# EAGLE library part SC410 (library am29-memory)
ELAN SC410 embedded 486 processor
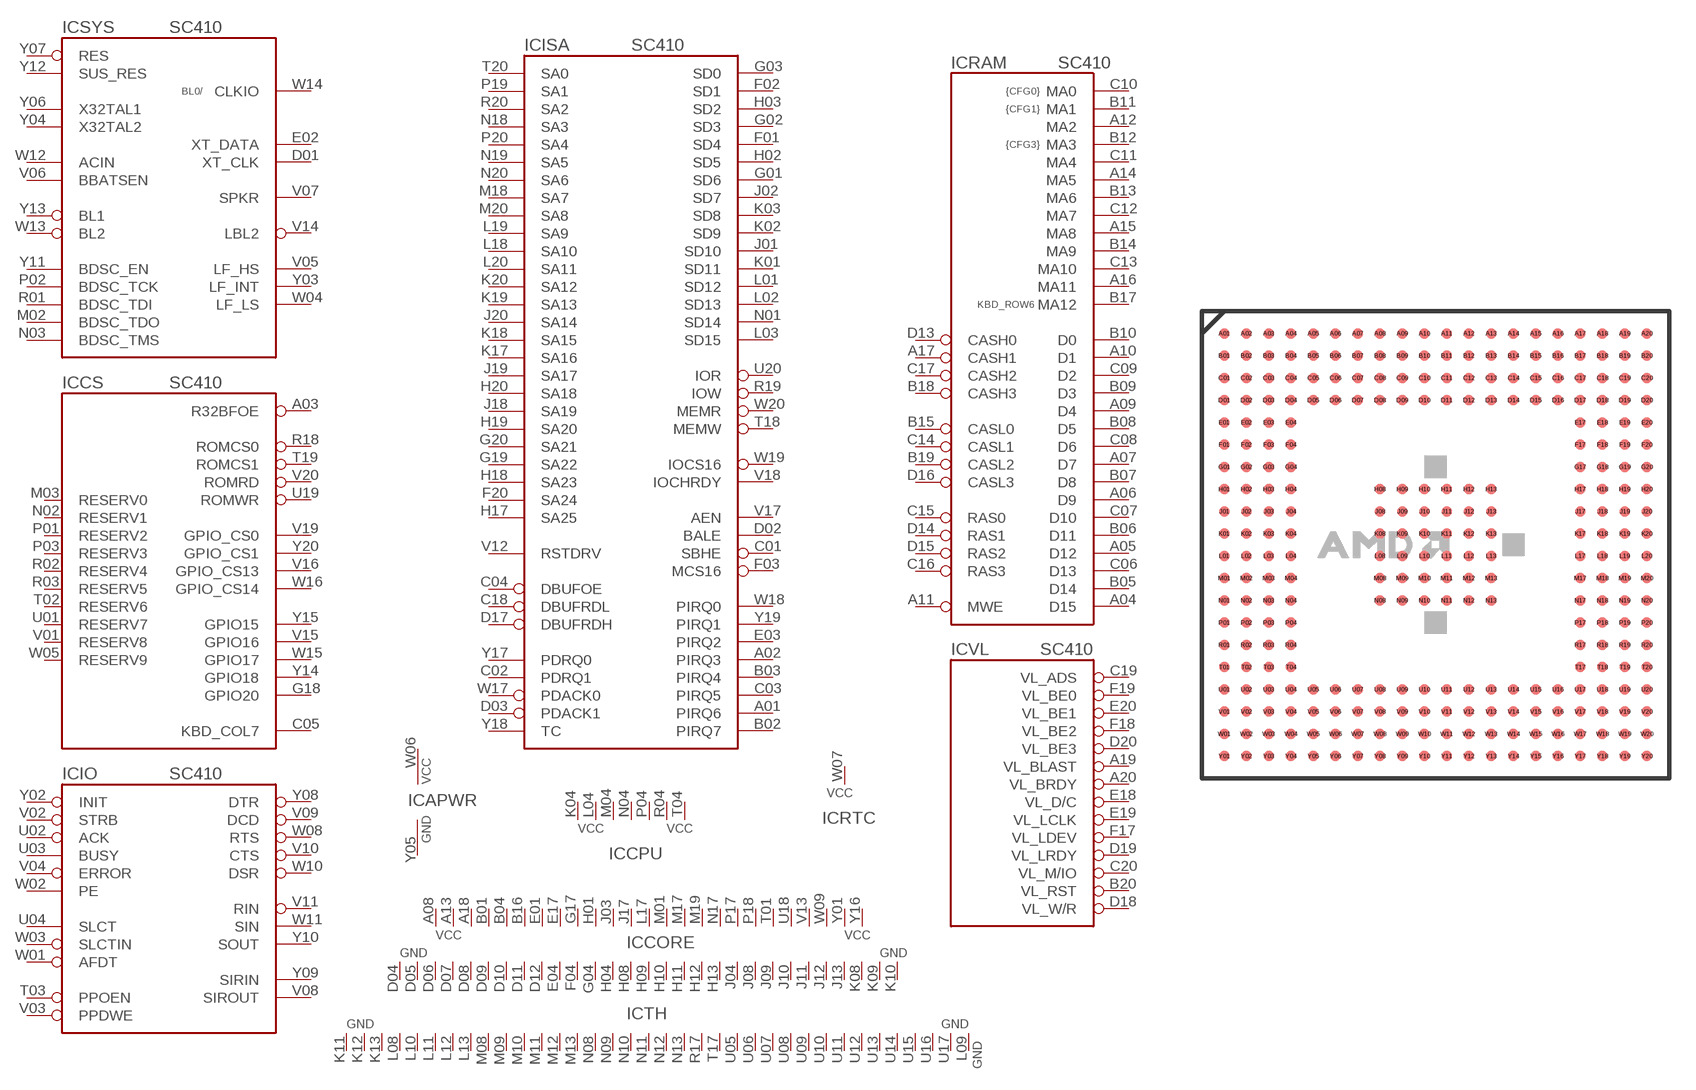
[diagram p0: symbol with the pads of BGA292; footprint BGA292]

Designator prefix IC; gates APWR=APWR CORE=COREPWR CPU=CPUPWR RTC=RTCPWR TH=THERM36 SYS=SYSMGR CS=CHIPSEL IO=SIO_EPP ISA=ISABUS RAM=DRAMBUS VL=VLBUS

## SC410  [BGA292]
A01  ISA:PIRQ6  in
A02  ISA:PIRQ3  in
A03  CS:R32BFOE  out
A04  RAM:D15
A05  RAM:D12
A06  RAM:D9
A07  RAM:D7
A08  CORE:VCC  pwr
A09  RAM:D4
A10  RAM:D1
A11  RAM:MWE  out
A12  RAM:MA2  out
A13  CORE:VCC  pwr
A14  RAM:MA5  out
A15  RAM:MA8  out
A16  RAM:MA11  out
A17  RAM:CASH1  out
A18  CORE:VCC  pwr
A19  VL:VL_BLAST  out
A20  VL:VL_BRDY  out
B01  CORE:VCC  pwr
B02  ISA:PIRQ7  in
B03  ISA:PIRQ4  in
B04  CORE:VCC  pwr
B05  RAM:D14
B06  RAM:D11
B07  RAM:D8
B08  RAM:D5
B09  RAM:D3
B10  RAM:D0
B11  RAM:MA1  out
B12  RAM:MA3  out
B13  RAM:MA6  out
B14  RAM:MA9  out
B15  RAM:CASL0  out
B16  CORE:VCC  pwr
B17  RAM:MA12  out
B18  RAM:CASH3  out
B19  RAM:CASL2  out
B20  VL:VL_RST  out
C01  ISA:SBHE  out
C02  ISA:PDRQ1  in
C03  ISA:PIRQ5  in
C04  ISA:DBUFOE  out
C05  CS:KBD_COL7  out
C06  RAM:D13
C07  RAM:D10
C08  RAM:D6
C09  RAM:D2
C10  RAM:MA0  out
C11  RAM:MA4  out
C12  RAM:MA7  out
C13  RAM:MA10  out
C14  RAM:CASL1  out
C15  RAM:RAS0  out
C16  RAM:RAS3  out
C17  RAM:CASH2  out
C18  ISA:DBUFRDL  out
C19  VL:VL_ADS  out
C20  VL:VL_M/IO  out
D01  SYS:XT_CLK
D02  ISA:BALE  out
D03  ISA:PDACK1  in
D04  CORE:GND  pwr
D05  CORE:GND  pwr
D06  CORE:GND  pwr
D07  CORE:GND  pwr
D08  CORE:GND  pwr
D09  CORE:GND  pwr
D10  CORE:GND  pwr
D11  CORE:GND  pwr
D12  CORE:GND  pwr
D13  RAM:CASH0  out
D14  RAM:RAS1  out
D15  RAM:RAS2  out
D16  RAM:CASL3  out
D17  ISA:DBUFRDH  out
D18  VL:VL_W/R  out
D19  VL:VL_LRDY  out
D20  VL:VL_BE3  out
E01  CORE:VCC  pwr
E02  SYS:XT_DATA
E03  ISA:PIRQ2  in
E04  CORE:GND  pwr
E17  CORE:VCC  pwr
E18  VL:VL_D/C  out
E19  VL:VL_LCLK  out
E20  VL:VL_BE1  out
F01  ISA:SD4
F02  ISA:SD1
F03  ISA:MCS16  out
F04  CORE:GND  pwr
F17  VL:VL_LDEV  out
F18  VL:VL_BE2  out
F19  VL:VL_BE0  out
F20  ISA:SA24  out
G01  ISA:SD6
G02  ISA:SD3
G03  ISA:SD0
G04  CORE:GND  pwr
G17  CORE:VCC  pwr
G18  CS:GPIO20  out
G19  ISA:SA22  out
G20  ISA:SA21  out
H01  CORE:VCC  pwr
H02  ISA:SD5
H03  ISA:SD2
H04  CORE:GND  pwr
H08  CORE:GND  pwr
H09  CORE:GND  pwr
H10  CORE:GND  pwr
H11  CORE:GND  pwr
H12  CORE:GND  pwr
H13  CORE:GND  pwr
H17  ISA:SA25  out
H18  ISA:SA23  out
H19  ISA:SA20  out
H20  ISA:SA18  out
J01  ISA:SD10
J02  ISA:SD7
J03  CORE:VCC  pwr
J04  CORE:GND  pwr
J08  CORE:GND  pwr
J09  CORE:GND  pwr
J10  CORE:GND  pwr
J11  CORE:GND  pwr
J12  CORE:GND  pwr
J13  CORE:GND  pwr
J17  CORE:VCC  pwr
J18  ISA:SA19  out
J19  ISA:SA17  out
J20  ISA:SA14  out
K01  ISA:SD11
K02  ISA:SD9
K03  ISA:SD8
K04  CPU:CPUVCC  pwr
K08  CORE:GND  pwr
K09  CORE:GND  pwr
K10  CORE:GND  pwr
K11  TH:GND  pwr
K12  TH:GND  pwr
K13  TH:GND  pwr
K17  ISA:SA16  out
K18  ISA:SA15  out
K19  ISA:SA13  out
K20  ISA:SA12  out
L01  ISA:SD12
L02  ISA:SD13
L03  ISA:SD15
L04  CPU:CPUVCC  pwr
L08  TH:GND  pwr
L09  TH:GND  pwr
L10  TH:GND  pwr
L11  TH:GND  pwr
L12  TH:GND  pwr
L13  TH:GND  pwr
L17  CORE:VCC  pwr
L18  ISA:SA10  out
L19  ISA:SA9  out
L20  ISA:SA11  out
M01  CORE:VCC  pwr
M02  SYS:BDSC_TDO  in
M03  CS:RESERV0  nc
M04  CPU:CPUVCC  pwr
M08  TH:GND  pwr
M09  TH:GND  pwr
M10  TH:GND  pwr
M11  TH:GND  pwr
M12  TH:GND  pwr
M13  TH:GND  pwr
M17  CORE:VCC  pwr
M18  ISA:SA7  out
M19  CORE:VCC  pwr
M20  ISA:SA8  out
N01  ISA:SD14
N02  CS:RESERV1  nc
N03  SYS:BDSC_TMS  in
N04  CPU:CPUVCC  pwr
N08  TH:GND  pwr
N09  TH:GND  pwr
N10  TH:GND  pwr
N11  TH:GND  pwr
N12  TH:GND  pwr
N13  TH:GND  pwr
N17  CORE:VCC  pwr
N18  ISA:SA3  out
N19  ISA:SA5  out
N20  ISA:SA6  out
P01  CS:RESERV2  nc
P02  SYS:BDSC_TCK  in
P03  CS:RESERV3  nc
P04  CPU:CPUVCC  pwr
P17  CORE:VCC  pwr
P18  CORE:VCC  pwr
P19  ISA:SA1  out
P20  ISA:SA4  out
R01  SYS:BDSC_TDI  in
R02  CS:RESERV4  nc
R03  CS:RESERV5  nc
R04  CPU:CPUVCC  pwr
R17  TH:GND  pwr
R18  CS:ROMCS0  out
R19  ISA:IOW  out
R20  ISA:SA2  out
T01  CORE:VCC  pwr
T02  CS:RESERV6  nc
T03  IO:PPOEN  out
T04  CPU:CPUVCC  pwr
T17  TH:GND  pwr
T18  ISA:MEMW  out
T19  CS:ROMCS1  out
T20  ISA:SA0  out
U01  CS:RESERV7  nc
U02  IO:ACK  in
U03  IO:BUSY  in
U04  IO:SLCT  in
U05  TH:GND  pwr
U06  TH:GND  pwr
U07  TH:GND  pwr
U08  TH:GND  pwr
U09  TH:GND  pwr
U10  TH:GND  pwr
U11  TH:GND  pwr
U12  TH:GND  pwr
U13  TH:GND  pwr
U14  TH:GND  pwr
U15  TH:GND  pwr
U16  TH:GND  pwr
U17  TH:GND  pwr
U18  CORE:VCC  pwr
U19  CS:ROMWR  out
U20  ISA:IOR  out
V01  CS:RESERV8  nc
V02  IO:STRB  out
V03  IO:PPDWE  out
V04  IO:ERROR  in
V05  SYS:LF_HS  out
V06  SYS:BBATSEN  in
V07  SYS:SPKR  out
V08  IO:SIROUT  out
V09  IO:DCD  in
V10  IO:CTS  out
V11  IO:RIN  in
V12  ISA:RSTDRV  out
V13  CORE:VCC  pwr
V14  SYS:LBL2  out
V15  CS:GPIO16  out
V16  CS:GPIO_CS13  out
V17  ISA:AEN  out
V18  ISA:IOCHRDY  in
V19  CS:GPIO_CS0  out
V20  CS:ROMRD  out
W01  IO:AFDT  out
W02  IO:PE  in
W03  IO:SLCTIN  out
W04  SYS:LF_LS  out
W05  CS:RESERV9  nc
W06  APWR:AVCC  pwr
W07  RTC:RTCVCC  pwr
W08  IO:RTS  out
W09  CORE:VCC  pwr
W10  IO:DSR  in
W11  IO:SIN  in
W12  SYS:ACIN  in
W13  SYS:BL2  in
W14  SYS:CLKIO
W15  CS:GPIO17  out
W16  CS:GPIO_CS14  out
W17  ISA:PDACK0  in
W18  ISA:PIRQ0  in
W19  ISA:IOCS16  in
W20  ISA:MEMR  out
Y01  CORE:VCC  pwr
Y02  IO:INIT  out
Y03  SYS:LF_INT  out
Y04  SYS:X32TAL2  in
Y05  APWR:AGND  pwr
Y06  SYS:X32TAL1  in
Y07  SYS:RES  in
Y08  IO:DTR  out
Y09  IO:SIRIN  in
Y10  IO:SOUT  out
Y11  SYS:BDSC_EN  in
Y12  SYS:SUS_RES  in
Y13  SYS:BL1  in
Y14  CS:GPIO18  out
Y15  CS:GPIO15  out
Y16  CORE:VCC  pwr
Y17  ISA:PDRQ0  in
Y18  ISA:TC  out
Y19  ISA:PIRQ1  in
Y20  CS:GPIO_CS1  out

## Footprint BGA292 (pad centres in mm)
Ball Grid Array
smd 0.6 x 0.6: A01 -12.065,12.065; A02 -10.795,12.065; A03 -9.525,12.065; A04 -8.255,12.065; A05 -6.985,12.065; A06 -5.715,12.065; A07 -4.445,12.065; A08 -3.175,12.065; A09 -1.905,12.065; A10 -0.635,12.065; A11 0.635,12.065; A12 1.905,12.065; A13 3.175,12.065; A14 4.445,12.065; A15 5.715,12.065; A16 6.985,12.065; A17 8.255,12.065; A18 9.525,12.065; A19 10.795,12.065; A20 12.065,12.065; B01 -12.065,10.795; B02 -10.795,10.795; B03 -9.525,10.795; B04 -8.255,10.795; B05 -6.985,10.795; B06 -5.715,10.795; B07 -4.445,10.795; B08 -3.175,10.795; B09 -1.905,10.795; B10 -0.635,10.795; B11 0.635,10.795; B12 1.905,10.795; B13 3.175,10.795; B14 4.445,10.795; B15 5.715,10.795; B16 6.985,10.795; B17 8.255,10.795; B18 9.525,10.795; B19 10.795,10.795; B20 12.065,10.795; C01 -12.065,9.525; C02 -10.795,9.525; C03 -9.525,9.525; C04 -8.255,9.525; C05 -6.985,9.525; C06 -5.715,9.525; C07 -4.445,9.525; C08 -3.175,9.525; C09 -1.905,9.525; C10 -0.635,9.525; C11 0.635,9.525; C12 1.905,9.525; C13 3.175,9.525; C14 4.445,9.525; C15 5.715,9.525; C16 6.985,9.525; C17 8.255,9.525; C18 9.525,9.525; C19 10.795,9.525; C20 12.065,9.525; D01 -12.065,8.255; D02 -10.795,8.255; D03 -9.525,8.255; D04 -8.255,8.255; D05 -6.985,8.255; D06 -5.715,8.255; D07 -4.445,8.255; D08 -3.175,8.255; D09 -1.905,8.255; D10 -0.635,8.255; D11 0.635,8.255; D12 1.905,8.255; D13 3.175,8.255; D14 4.445,8.255; D15 5.715,8.255; D16 6.985,8.255; D17 8.255,8.255; D18 9.525,8.255; D19 10.795,8.255; D20 12.065,8.255; E01 -12.065,6.985; E02 -10.795,6.985; E03 -9.525,6.985; E04 -8.255,6.985; E17 8.255,6.985; E18 9.525,6.985; E19 10.795,6.985; E20 12.065,6.985; F01 -12.065,5.715; F02 -10.795,5.715; F03 -9.525,5.715; F04 -8.255,5.715; F17 8.255,5.715; F18 9.525,5.715; F19 10.795,5.715; F20 12.065,5.715; G01 -12.065,4.445; G02 -10.795,4.445; G03 -9.525,4.445; G04 -8.255,4.445; G17 8.255,4.445; G18 9.525,4.445; G19 10.795,4.445; G20 12.065,4.445; H01 -12.065,3.175; H02 -10.795,3.175; H03 -9.525,3.175; H04 -8.255,3.175; H08 -3.175,3.175; H09 -1.905,3.175; H10 -0.635,3.175; H11 0.635,3.175; H12 1.905,3.175; H13 3.175,3.175; H17 8.255,3.175; H18 9.525,3.175; H19 10.795,3.175; H20 12.065,3.175; J01 -12.065,1.905; J02 -10.795,1.905; J03 -9.525,1.905; J04 -8.255,1.905; J08 -3.175,1.905; J09 -1.905,1.905; J10 -0.635,1.905; J11 0.635,1.905; J12 1.905,1.905; J13 3.175,1.905; J17 8.255,1.905; J18 9.525,1.905; J19 10.795,1.905; J20 12.065,1.905; K01 -12.065,0.635; K02 -10.795,0.635; K03 -9.525,0.635; K04 -8.255,0.635; K08 -3.175,0.635; K09 -1.905,0.635; K10 -0.635,0.635; K11 0.635,0.635; K12 1.905,0.635; K13 3.175,0.635; K17 8.255,0.635; K18 9.525,0.635; K19 10.795,0.635; K20 12.065,0.635; L01 -12.065,-0.635; L02 -10.795,-0.635; L03 -9.525,-0.635; L04 -8.255,-0.635; L08 -3.175,-0.635; L09 -1.905,-0.635; L10 -0.635,-0.635; L11 0.635,-0.635; L12 1.905,-0.635; L13 3.175,-0.635; L17 8.255,-0.635; L18 9.525,-0.635; L19 10.795,-0.635; L20 12.065,-0.635; M01 -12.065,-1.905; M02 -10.795,-1.905; M03 -9.525,-1.905; M04 -8.255,-1.905; M08 -3.175,-1.905; M09 -1.905,-1.905; M10 -0.635,-1.905; M11 0.635,-1.905; M12 1.905,-1.905; M13 3.175,-1.905; M17 8.255,-1.905; M18 9.525,-1.905; M19 10.795,-1.905; M20 12.065,-1.905; N01 -12.065,-3.175; N02 -10.795,-3.175; N03 -9.525,-3.175; N04 -8.255,-3.175; N08 -3.175,-3.175; N09 -1.905,-3.175; N10 -0.635,-3.175; N11 0.635,-3.175; N12 1.905,-3.175; N13 3.175,-3.175; N17 8.255,-3.175; N18 9.525,-3.175; N19 10.795,-3.175; N20 12.065,-3.175; P01 -12.065,-4.445; P02 -10.795,-4.445; P03 -9.525,-4.445; P04 -8.255,-4.445; P17 8.255,-4.445; P18 9.525,-4.445; P19 10.795,-4.445; P20 12.065,-4.445; R01 -12.065,-5.715; R02 -10.795,-5.715; R03 -9.525,-5.715; R04 -8.255,-5.715; R17 8.255,-5.715; R18 9.525,-5.715; R19 10.795,-5.715; R20 12.065,-5.715; T01 -12.065,-6.985; T02 -10.795,-6.985; T03 -9.525,-6.985; T04 -8.255,-6.985; T17 8.255,-6.985; T18 9.525,-6.985; T19 10.795,-6.985; T20 12.065,-6.985; U01 -12.065,-8.255; U02 -10.795,-8.255; U03 -9.525,-8.255; U04 -8.255,-8.255; U05 -6.985,-8.255; U06 -5.715,-8.255; U07 -4.445,-8.255; U08 -3.175,-8.255; U09 -1.905,-8.255; U10 -0.635,-8.255; U11 0.635,-8.255; U12 1.905,-8.255; U13 3.175,-8.255; U14 4.445,-8.255; U15 5.715,-8.255; U16 6.985,-8.255; U17 8.255,-8.255; U18 9.525,-8.255; U19 10.795,-8.255; U20 12.065,-8.255; V01 -12.065,-9.525; V02 -10.795,-9.525; V03 -9.525,-9.525; V04 -8.255,-9.525; V05 -6.985,-9.525; V06 -5.715,-9.525; V07 -4.445,-9.525; V08 -3.175,-9.525; V09 -1.905,-9.525; V10 -0.635,-9.525; V11 0.635,-9.525; V12 1.905,-9.525; V13 3.175,-9.525; V14 4.445,-9.525; V15 5.715,-9.525; V16 6.985,-9.525; V17 8.255,-9.525; V18 9.525,-9.525; V19 10.795,-9.525; V20 12.065,-9.525; W01 -12.065,-10.795; W02 -10.795,-10.795; W03 -9.525,-10.795; W04 -8.255,-10.795; W05 -6.985,-10.795; W06 -5.715,-10.795; W07 -4.445,-10.795; W08 -3.175,-10.795; W09 -1.905,-10.795; W10 -0.635,-10.795; W11 0.635,-10.795; W12 1.905,-10.795; W13 3.175,-10.795; W14 4.445,-10.795; W15 5.715,-10.795; W16 6.985,-10.795; W17 8.255,-10.795; W18 9.525,-10.795; W19 10.795,-10.795; W20 12.065,-10.795; Y01 -12.065,-12.065; Y02 -10.795,-12.065; Y03 -9.525,-12.065; Y04 -8.255,-12.065; Y05 -6.985,-12.065; Y06 -5.715,-12.065; Y07 -4.445,-12.065; Y08 -3.175,-12.065; Y09 -1.905,-12.065; Y10 -0.635,-12.065; Y11 0.635,-12.065; Y12 1.905,-12.065; Y13 3.175,-12.065; Y14 4.445,-12.065; Y15 5.715,-12.065; Y16 6.985,-12.065; Y17 8.255,-12.065; Y18 9.525,-12.065; Y19 10.795,-12.065; Y20 12.065,-12.065